# Altium schematic symbol library bmb.SchLib: 1 symbol
Pins are listed as number, name and electrical type; pins without a type are passive.

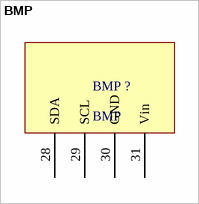
[diagram p0: symbol BMP]

## BMP
designator BMP ?
footprint BMP
pins: 28 SDA, 29 SCL, 30 GND, 31 Vin